# EAGLE library part 651005136521 (library USB_c_conn)
WR-COM Horizontal 5 Contacts Mini USB Typ B=>Code : Con_I-O_COM_MiniUSB_651005136521 <http://katalog.we-online.de/media/images/eican/Con_I-O_COM_MiniUSB_651005136521_pf2.jpg> Details see: http://katalog.we-online.de/en/em/COM_MINI_TYPE_B_HORIZONTAL/651005136521 Created 2014-07-09, Karrer Zheng 2014 (C) Würth Elektronik
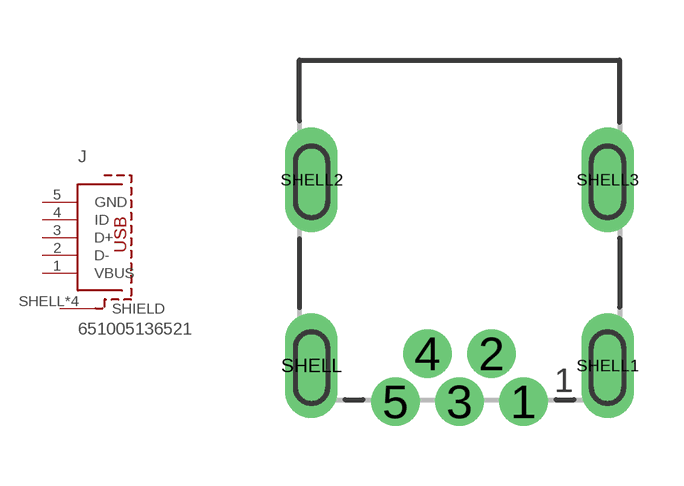
[diagram p68: symbol with the pads of 651005136521; footprint 651005136521]

Designator prefix J

## 651005136521  [651005136521]
1  VBUS  pas
2  D-  pas
3  D+  pas
4  ID  pas
5  GND  pas
SHELL  SHIELD  pas
SHELL1  SHIELD  pas
SHELL2  SHIELD  pas
SHELL3  SHIELD  pas

## Footprint 651005136521 (pad centres in mm)
WR-COM Horizontal 5 Contacts Mini USB Typ B
drill 0.7: 1 1.6,-0.9; 2 0.8,0.3; 3 0,-0.9; 4 -0.8,0.3; 5 -1.6,-0.9
drill 0.8 long: SHELL -3.7,0; SHELL1 3.7,0; SHELL2 -3.7,4.65; SHELL3 3.7,4.65